# Altium footprint library GPS.PcbLib: 5 footprints
Each footprint in its own frame and in the unit in brackets; x right, y up, seen from the top. Pads: shape width x height; smd on the part's side, far side on the other; paste and mask are expansions set on the pad; w line width, h text height; cw(c..) or ccw(c..) is an arc to the next point about the centre after c.
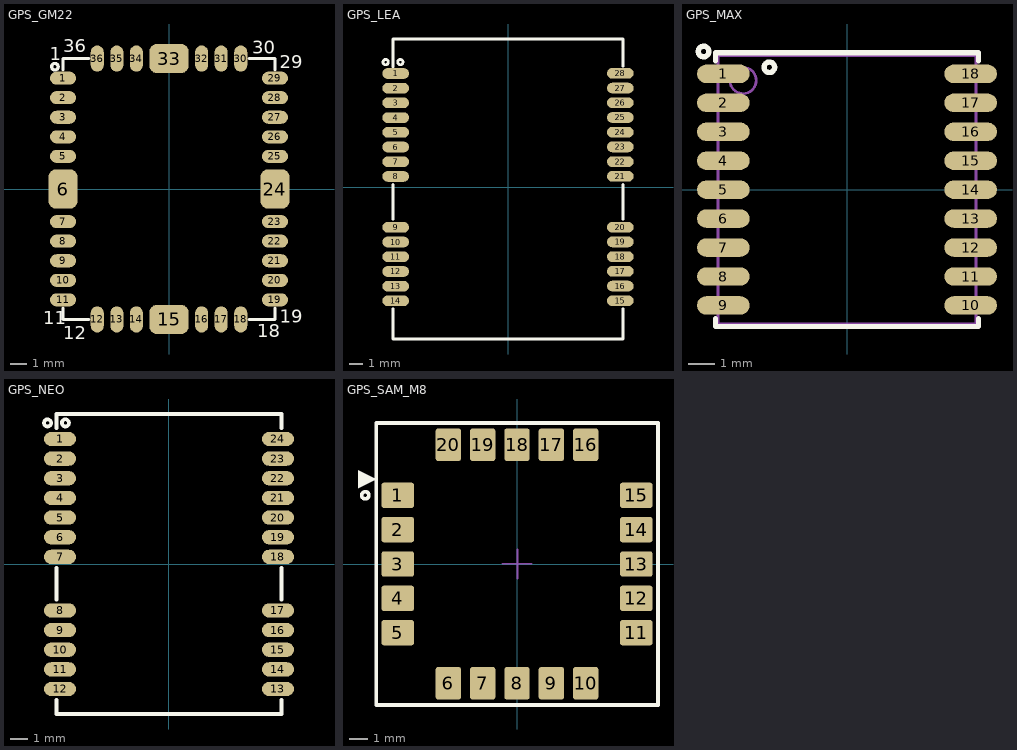
[diagram p0: the footprints below, top view; thin cyan lines are the x and y axes]

## GPS_GM22 [mm]
pads (36):
  oval 1.6x0.8 smd: 1(-6.5,6.8) 2(-6.5,5.6) 3(-6.5,4.4) 4(-6.5,3.2) 5(-6.5,2) 7(-6.5,-2) 8(-6.5,-3.2) 9(-6.5,-4.4) 10(-6.5,-5.6) 11(-6.5,-6.8) 19(6.5,-6.8) 20(6.5,-5.6) 21(6.5,-4.4) 22(6.5,-3.2) 23(6.5,-2) 25(6.5,2) 26(6.5,3.2) 27(6.5,4.4) 28(6.5,5.6) 29(6.5,6.8)
  rrect50% 1.8x2.4 smd: 6(-6.5,0) 24(6.5,0)
  oval 0.8x1.6 smd: 12(-4.4,-8) 13(-3.2,-8) 14(-2,-8) 16(2,-8) 17(3.2,-8) 18(4.4,-8) 30(4.4,8) 31(3.2,8) 32(2,8) 34(-2,8) 35(-3.2,8) 36(-4.4,8)
  rrect50% 2.4x1.8 smd: 15(0,-8) 33(0,8)
Top Overlay:
  circle w0.2: c-7,7.5 r0.2
  lines w0.2: -6.5,-7.3 -6.5,-8 -4.9,-8 ; -6.5,7.3 -6.5,8 -4.9,8 ; 4.9,-8 6.5,-8 6.5,-7.3 ; 4.9,8 6.5,8 6.5,7.3
  text "1" at -7.3,7.9 h0.8
  text "11" at -7.7,-8.3 h0.8
  text "18" at 5.4,-9.1 h0.8
  text "19" at 6.8,-8.2 h0.8
  text "29" at 6.8,7.4 h0.8
  text "30" at 5.1,8.3 h0.8
  text "36" at -6.5,8.4 h0.8
  text "12" at -6.5,-9.2 h0.8
3D body: height 3, standoff 0, extent -6.4,-7.9 6.4,7.9

## GPS_LEA [mm] "GPS LEA-6"
height 2.6
pads (28):
  oval 2x0.8 smd: 1(-8.4,8.5) 2(-8.4,7.4) 3(-8.4,6.3) 4(-8.4,5.2) 5(-8.4,4.1) 6(-8.4,3) 7(-8.4,1.9) 8(-8.4,0.8) 9(-8.4,-3.006) 10(-8.4,-4.106) 11(-8.4,-5.206) 12(-8.4,-6.308) 13(-8.4,-7.408) 14(-8.4,-8.508) 15(8.4,-8.5) 16(8.4,-7.4) 17(8.4,-6.3) 18(8.4,-5.198) 19(8.4,-4.098) 20(8.4,-2.998) 21(8.4,0.808) 22(8.4,1.908) 23(8.4,3.008) 24(8.4,4.108) 25(8.4,5.208) 26(8.4,6.308) 27(8.4,7.408) 28(8.4,8.508)
Top Overlay:
  circle w0.2: c-8.05,9.35 r0.2
  circle w0.2: c-9.15,9.35 r0.2
  lines w0.2: -8.6,-9.107 -8.6,-11.358 8.6,-11.358 8.6,-9.086 ; -8.6,-2.4 -8.6,0.2 ; -8.6,8.982 -8.6,11.078 8.6,11.078 8.6,9.037 ; 8.6,-2.4 8.6,0.2
3D body "LEA-M8F(AP214).STEP": height 3.55, standoff -0.05, extent -8.492,-11.338 8.508,11.062
3D body: height 2.2, standoff 0, extent -9.981,-3.251 5.388,9.011

## GPS_MAX [mm] "MAX-M8, 18-Leads, Body 9.70x10.10mm, Pitch 1.10mm"
height 1
pads (18):
  oval 2x0.7 smd: 1(-4.7,4.4) 2(-4.7,3.3) 3(-4.7,2.2) 4(-4.7,1.1) 5(-4.7,0) 6(-4.7,-1.1) 7(-4.7,-2.2) 8(-4.7,-3.3) 9(-4.7,-4.4) 10(4.7,-4.4) 11(4.7,-3.3) 12(4.7,-2.2) 13(4.7,-1.1) 14(4.7,0) 15(4.7,1.1) 16(4.7,2.2) 17(4.7,3.3) 18(4.7,4.4)
Top Overlay:
  circle w0.2: c-5.45,5.25 r0.2
  circle w0.2: c-2.95,4.65 r0.2
  lines w0.2: -5,-4.9 -5,-5.2 5,-5.2 5,-4.9 ; -5,4.9 -5,5.2 5,5.2 5,4.9
Mechanical 13:
  circle w0.1: c-3.95,4.15 r0.5
  lines w0.1: -4.9,-5.1 -4.9,5.1 4.9,5.1 4.9,-5.1 -4.9,-5.1
3D body "MAX (STEP-AP214).step": height 2.07, standoff -0.4, extent -4.852,-4.994 4.848,5.106

## GPS_NEO [mm] "GPS NEO-6, UBLOX_NEO6M GPS MODULE"
pads (24):
  oval 1.8x0.8 smd mask+0.075: 1(-6.1,7) 2(-6.1,5.9) 3(-6.1,4.8) 4(-6.1,3.7) 5(-6.1,2.6) 6(-6.1,1.5) 7(-6.1,0.4) 8(-6.1,-2.6) 9(-6.1,-3.7) 10(-6.1,-4.8) 11(-6.1,-5.9) 12(-6.1,-7) 13(6.1,-7) 14(6.1,-5.9) 15(6.1,-4.8) 16(6.1,-3.7) 17(6.1,-2.6) 18(6.1,0.4) 19(6.1,1.5) 20(6.1,2.6) 21(6.1,3.7) 22(6.1,4.8) 23(6.1,5.9) 24(6.1,7)
Top Overlay:
  circle w0.2: c-5.8,7.9 r0.2
  circle w0.2: c-6.8,7.9 r0.2
  lines w0.2: -6.3,-7.6 -6.3,-8.4 6.3,-8.4 6.3,-7.6 ; -6.3,-2 -6.3,-0.2 ; -6.3,7.6 -6.3,8.4 6.3,8.4 6.3,7.6 ; 6.3,-2 6.3,-0.2
3D body "User Library-UBLOX_GPS_NEO-6M.STEP": height 2.64, standoff 0, extent -6.18,-8.3 6.18,8.3

## GPS_SAM_M8 [mm] "ublox SAM antenna module"
height 2
pads (20):
  rrect20% 1.8x1.4 smd paste-1.8: 1(-6.6,3.8) 2(-6.6,1.9) 3(-6.6,0) 4(-6.6,-1.9) 5(-6.6,-3.8) 11(6.6,-3.8) 12(6.6,-1.9) 13(6.6,0) 14(6.6,1.9) 15(6.6,3.8)
  rrect20% 1.4x1.8 smd paste-1.8: 6(-3.8,-6.6) 7(-1.9,-6.6) 8(0,-6.6) 9(1.9,-6.6) 10(3.8,-6.6) 16(3.8,6.6) 17(1.9,6.6) 18(0,6.6) 19(-1.9,6.6) 20(-3.8,6.6)
Top Overlay:
  circle w0.2: c-8.4,3.8 r0.2
  region: -8.8,5.2 -8.8,4.2 -7.8,4.7
  lines w0.2: -7.8,-7.8 -7.8,7.8 7.8,7.8 7.8,-7.8 -7.8,-7.8
Top Paste:
  region: 7.471,3.665 6.752,3.665 6.752,3.085 7.471,3.085
  region: 7.467,4.502 6.748,4.502 6.748,3.922 7.467,3.922
  region: 6.453,3.669 5.734,3.669 5.734,3.089 6.453,3.089
  region: 6.453,4.499 5.734,4.499 5.734,3.919 6.453,3.919
  region: 7.467,1.769 6.748,1.769 6.748,1.189 7.467,1.189
  region: 7.463,2.606 6.744,2.606 6.744,2.026 7.463,2.026
  region: 6.449,1.773 5.73,1.773 5.73,1.193 6.449,1.193
  region: 6.449,2.603 5.73,2.603 5.73,2.023 6.449,2.023
  region: 7.467,-2.037 6.748,-2.037 6.748,-2.617 7.467,-2.617
  region: 7.463,-1.2 6.744,-1.2 6.744,-1.78 7.463,-1.78
  region: 6.449,-2.033 5.73,-2.033 5.73,-2.613 6.449,-2.613
  region: 6.449,-1.203 5.73,-1.203 5.73,-1.783 6.449,-1.783
  region: -5.731,-3.933 -6.45,-3.933 -6.45,-4.513 -5.731,-4.513
  region: -5.735,-3.096 -6.454,-3.096 -6.454,-3.676 -5.735,-3.676
  region: -6.749,-3.929 -7.468,-3.929 -7.468,-4.509 -6.749,-4.509
  region: -6.749,-3.099 -7.468,-3.099 -7.468,-3.679 -6.749,-3.679
  region: -5.731,-2.037 -6.45,-2.037 -6.45,-2.617 -5.731,-2.617
  region: -5.735,-1.2 -6.454,-1.2 -6.454,-1.78 -5.735,-1.78
  region: -6.749,-2.033 -7.468,-2.033 -7.468,-2.613 -6.749,-2.613
  region: -6.749,-1.203 -7.468,-1.203 -7.468,-1.783 -6.749,-1.783
  region: -5.731,1.769 -6.45,1.769 -6.45,1.189 -5.731,1.189
  region: -5.735,2.606 -6.454,2.606 -6.454,2.026 -5.735,2.026
  region: -6.749,1.773 -7.468,1.773 -7.468,1.193 -6.749,1.193
  region: -6.749,2.603 -7.468,2.603 -7.468,2.023 -6.749,2.023
  region: -6.749,4.508 -7.468,4.508 -7.468,3.928 -6.749,3.928
  region: -6.749,3.678 -7.468,3.678 -7.468,3.098 -6.749,3.098
  region: -5.735,4.511 -6.454,4.511 -6.454,3.931 -5.735,3.931
  region: -5.731,3.674 -6.45,3.674 -6.45,3.094 -5.731,3.094
  region: 2.594,6.746 2.594,7.465 2.014,7.465 2.014,6.746
  region: 1.764,6.746 1.764,7.465 1.184,7.465 1.184,6.746
  region: 2.597,5.732 2.597,6.451 2.017,6.451 2.017,5.732
  region: 1.76,5.728 1.76,6.447 1.18,6.447 1.18,5.728
  region: -1.193,6.741 -1.193,7.46 -1.773,7.46 -1.773,6.741
  region: -2.023,6.741 -2.023,7.46 -2.603,7.46 -2.603,6.741
  region: -1.19,5.727 -1.19,6.446 -1.77,6.446 -1.77,5.727
  region: -2.027,5.723 -2.027,6.442 -2.607,6.442 -2.607,5.723
  region: -0.126,-7.473 -0.126,-6.754 -0.706,-6.754 -0.706,-7.473
  region: 0.711,-7.469 0.711,-6.75 0.131,-6.75 0.131,-7.469
  region: -0.122,-6.455 -0.122,-5.736 -0.702,-5.736 -0.702,-6.455
  region: 0.708,-6.455 0.708,-5.736 0.128,-5.736 0.128,-6.455
  region: -2.032,-7.466 -2.032,-6.747 -2.612,-6.747 -2.612,-7.466
  region: -1.195,-7.462 -1.195,-6.743 -1.775,-6.743 -1.775,-7.462
  region: -2.028,-6.448 -2.028,-5.729 -2.608,-5.729 -2.608,-6.448
  region: -1.198,-6.448 -1.198,-5.729 -1.778,-5.729 -1.778,-6.448
  region: -3.098,-6.455 -3.098,-5.736 -3.678,-5.736 -3.678,-6.455
  region: -3.928,-6.455 -3.928,-5.736 -4.508,-5.736 -4.508,-6.455
  region: -3.095,-7.469 -3.095,-6.75 -3.675,-6.75 -3.675,-7.469
  region: -3.932,-7.473 -3.932,-6.754 -4.512,-6.754 -4.512,-7.473
  region: 2.604,-6.446 2.604,-5.727 2.024,-5.727 2.024,-6.446
  region: 1.774,-6.446 1.774,-5.727 1.194,-5.727 1.194,-6.446
  region: 2.607,-7.46 2.607,-6.741 2.027,-6.741 2.027,-7.46
  region: 1.77,-7.464 1.77,-6.745 1.19,-6.745 1.19,-7.464
  region: 3.666,-7.473 3.666,-6.754 3.086,-6.754 3.086,-7.473
  region: 4.503,-7.469 4.503,-6.75 3.923,-6.75 3.923,-7.469
  region: 3.67,-6.455 3.67,-5.736 3.09,-5.736 3.09,-6.455
  region: 4.5,-6.455 4.5,-5.736 3.92,-5.736 3.92,-6.455
  region: -3.937,5.732 -3.937,6.451 -4.517,6.451 -4.517,5.732
  region: -3.1,5.736 -3.1,6.455 -3.68,6.455 -3.68,5.736
  region: -3.933,6.75 -3.933,7.469 -4.513,7.469 -4.513,6.75
  region: -3.103,6.75 -3.103,7.469 -3.683,7.469 -3.683,6.75
  region: -0.131,5.732 -0.131,6.451 -0.711,6.451 -0.711,5.732
  region: 0.706,5.736 0.706,6.455 0.126,6.455 0.126,5.736
  region: -0.127,6.75 -0.127,7.469 -0.707,7.469 -0.707,6.75
  region: 0.703,6.75 0.703,7.469 0.123,7.469 0.123,6.75
  region: 3.665,5.732 3.665,6.451 3.085,6.451 3.085,5.732
  region: 4.502,5.736 4.502,6.455 3.922,6.455 3.922,5.736
  region: 3.669,6.75 3.669,7.469 3.089,7.469 3.089,6.75
  region: 4.499,6.75 4.499,7.469 3.919,7.469 3.919,6.75
  region: -6.749,0.698 -7.468,0.698 -7.468,0.118 -6.749,0.118
  region: -6.749,-0.132 -7.468,-0.132 -7.468,-0.712 -6.749,-0.712
  region: -5.735,0.701 -6.454,0.701 -6.454,0.121 -5.735,0.121
  region: -5.731,-0.136 -6.45,-0.136 -6.45,-0.716 -5.731,-0.716
  region: 6.449,-3.099 5.73,-3.099 5.73,-3.679 6.449,-3.679
  region: 6.449,-3.929 5.73,-3.929 5.73,-4.509 6.449,-4.509
  region: 7.463,-3.096 6.744,-3.096 6.744,-3.676 7.463,-3.676
  region: 7.467,-3.933 6.748,-3.933 6.748,-4.513 7.467,-4.513
  region: 6.449,0.698 5.73,0.698 5.73,0.118 6.449,0.118
  region: 6.449,-0.132 5.73,-0.132 5.73,-0.712 6.449,-0.712
  region: 7.463,0.701 6.744,0.701 6.744,0.121 7.463,0.121
  region: 7.467,-0.136 6.748,-0.136 6.748,-0.716 7.467,-0.716
Mechanical 13:
  lines w0.1: -7.751,-7.774 -7.751,7.741 7.74,7.741 7.74,-7.774 -7.751,-7.774
Mechanical 15:
  lines w0.1: -0.8,0.017 0.028,0.017 ; 0.028,-0.8 0.028,0.017 ; 0.028,0.8 0.028,0.017 ; 0.8,0.017 0.028,0.017
3D body "SAM_AP214.STEP": height 6.36, standoff -0.02, extent -7.726,-7.751 7.774,7.749